# Altium footprint library Mounting Hole.PcbLib: 1 footprints
Each footprint in its own frame and in the unit in brackets; x right, y up, seen from the top. Pads: shape width x height; smd on the part's side, far side on the other; paste and mask are expansions set on the pad; w line width, h text height; cw(c..) or ccw(c..) is an arc to the next point about the centre after c.
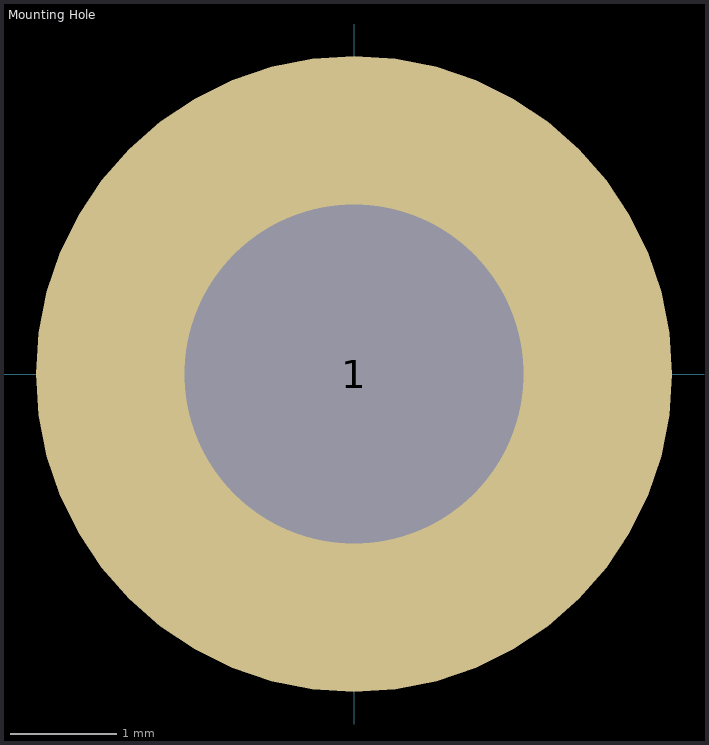
[diagram p0: the footprint, top view; thin cyan lines are the x and y axes]

## Mounting Hole [mm]
pads (1):
  round 6 hole 3.2 unplated: 1(0,0)
Mechanical 15:
  lines w0.2: -0.5,0 0,0 ; 0,-0.5 0,0 ; 0,0.5 0,0 ; 0.5,0 0,0
3D body "M3x6.step": height 2.8, standoff -6, extent -2.75,-2.75 2.75,2.75